# Altium footprint library pedals-misc.PCBLIB: 1 footprints
Each footprint in its own frame and in the unit in brackets; x right, y up, seen from the top. Pads: shape width x height; smd on the part's side, far side on the other; paste and mask are expansions set on the pad; w line width, h text height; cw(c..) or ccw(c..) is an arc to the next point about the centre after c.
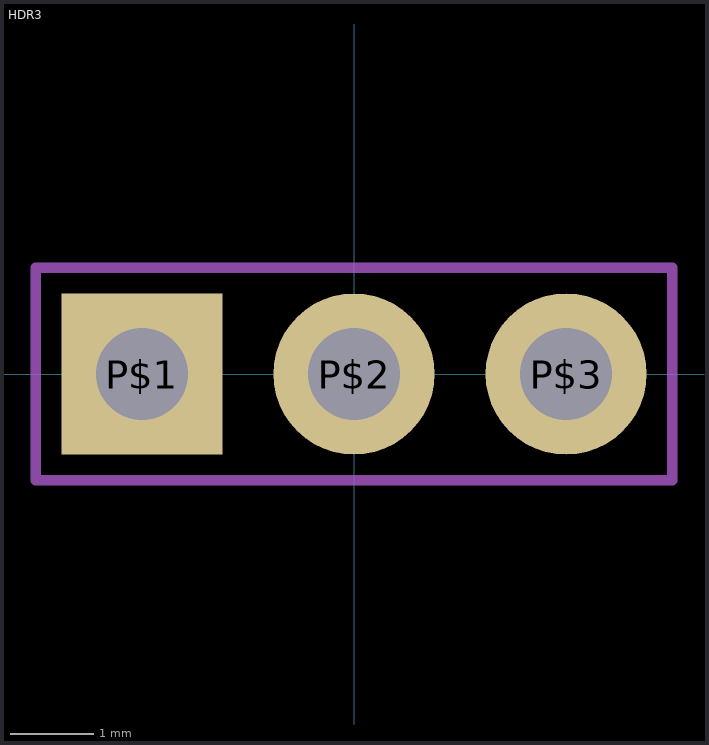
[diagram p0: the footprint, top view; thin cyan lines are the x and y axes]

## HDR3 [mil]
pads (3):
  rect 76x76 hole 43.31: P$1(-100,0)
  round 76 hole 43.31: P$2(0,0) P$3(100,0)
Mechanical 2:
  lines w5: -150,-50 150,-50 150,50 -150,50 -150,-50